# EAGLE library part 310100047_ADC081C027CIMK (library Seeed-OPL-2017-01-IC-Akita)
TI;ADC081C027CIMK/NOPB, SMD IC ADC;TSOT23-6, SKU: 310100047
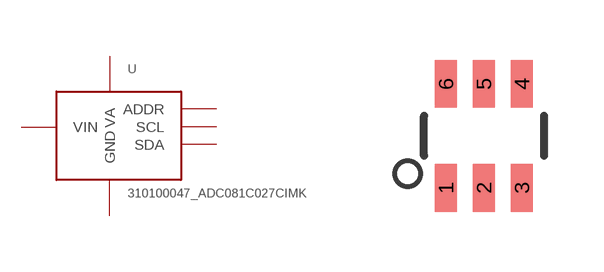
[diagram p11: symbol with the pads of SOT236; footprint SOT236]

Designator prefix U

## 310100047_ADC081C027CIMK  [SOT236]
1  VA  pwr
2  GND  pwr
3  VIN
4  ADDR
5  SCL
6  SDA

## Footprint SOT236 (pad centres in mm)
SOT236
smd 0.55 x 1.2: 1 -0.95,-1.3; 2 0,-1.3; 3 0.95,-1.3; 4 0.95,1.3; 5 0,1.3; 6 -0.95,1.3